# EAGLE library part LSM9DS0 (library IMU_parts)
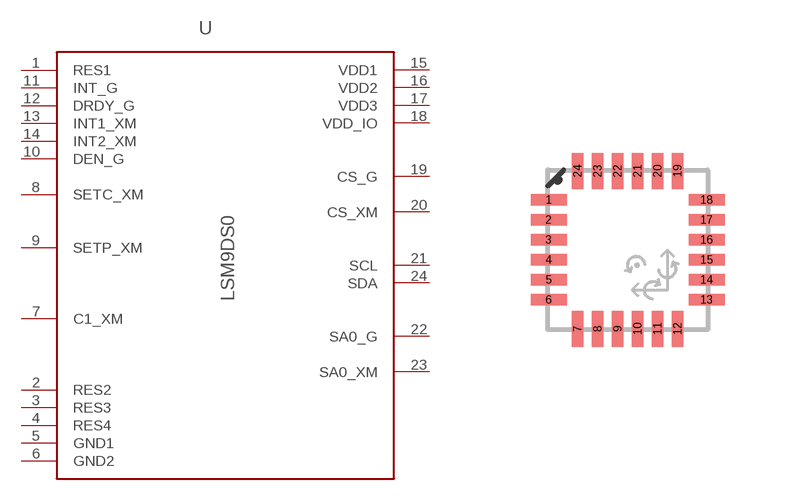
[diagram p2: symbol with the pads of LGA-24; footprint LGA-24]

Designator prefix -

## LSM9DS0  [LGA-24]
1  RES1
2  RES2
3  RES3
4  RES4
5  GND1
6  GND2
7  C1_XM
8  SETC_XM
9  SETP_XM
10  DEN_G
11  INT_G
12  DRDY_G
13  INT1_XM
14  INT2_XM
15  VDD1
16  VDD2
17  VDD3
18  VDD_IO
19  CS_G
20  CS_XM
21  SCL
22  SA0_G
23  SA0_XM
24  SDA

## Footprint LGA-24 (pad centres in mm)
LGA 4x4x1 mm 24-lead 0.5mm pitch Pads are 0.35x0.2 mm square This package is used for: ST Micro LSM9DS0 3D accel/gyro/mag
smd 0.9 x 0.29: 1 -1.975,1.25; 2 -1.975,0.75; 3 -1.975,0.25; 4 -1.975,-0.25; 5 -1.975,-0.75; 6 -1.975,-1.25; 13 1.975,-1.25; 14 1.975,-0.75; 15 1.975,-0.25; 16 1.975,0.25; 17 1.975,0.75; 18 1.975,1.25
smd 0.29 x 0.9: 7 -1.25,-1.975; 8 -0.75,-1.975; 9 -0.25,-1.975; 10 0.25,-1.975; 11 0.75,-1.975; 12 1.25,-1.975; 19 1.25,1.975; 20 0.75,1.975; 21 0.25,1.975; 22 -0.25,1.975; 23 -0.75,1.975; 24 -1.25,1.975